# EAGLE library part C8051F221 (library micro-silabs)
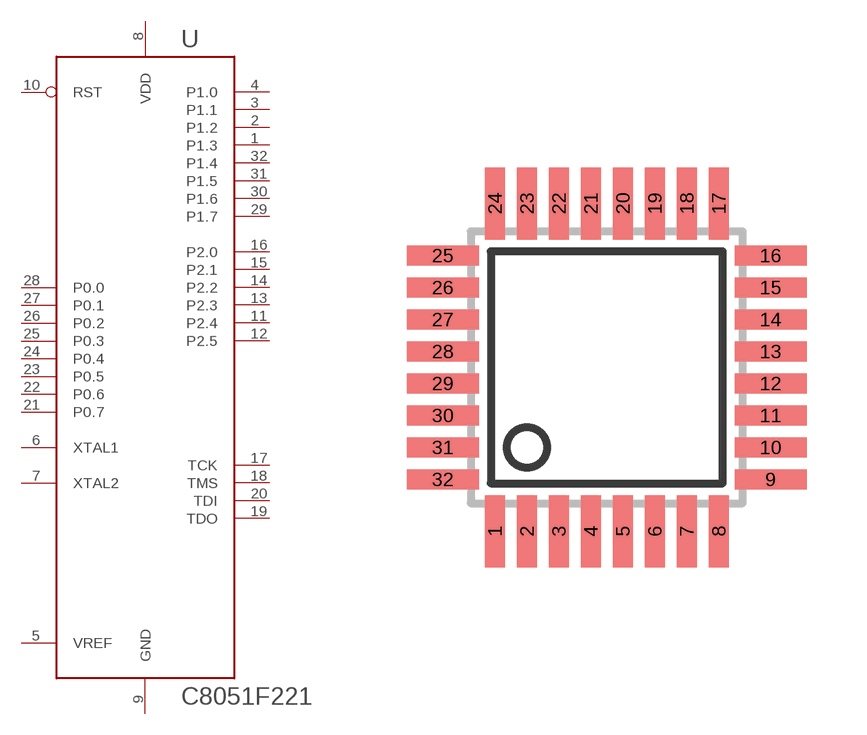
[diagram p33: symbol with the pads of LQFP32; footprint LQFP32]

Designator prefix -

## C8051F221  [LQFP32]
1  P1.3
2  P1.2
3  P1.1
4  P1.0
5  VREF  in
6  XTAL1  in
7  XTAL2  out
8  VDD  pwr
9  GND  pwr
10  RST
11  P2.4
12  P2.5
13  P2.3
14  P2.2
15  P2.1
16  P2.0
17  TCK  in
18  TMS  in
19  TDO  out
20  TDI  in
21  P0.7
22  P0.6
23  P0.5
24  P0.4
25  P0.3
26  P0.2
27  P0.1
28  P0.0
29  P1.7
30  P1.6
31  P1.5
32  P1.4

## Footprint LQFP32 (pad centres in mm)
Cygnal LQFP32
smd 0.5 x 1.8: 1 -2.8,-4.1; 2 -2,-4.1; 3 -1.2,-4.1; 4 -0.4,-4.1; 5 0.4,-4.1; 6 1.2,-4.1; 7 2,-4.1; 8 2.8,-4.1; 17 2.8,4.1; 18 2,4.1; 19 1.2,4.1; 20 0.4,4.1; 21 -0.4,4.1; 22 -1.2,4.1; 23 -2,4.1; 24 -2.8,4.1
smd 1.8 x 0.5: 9 4.1,-2.8; 10 4.1,-2; 11 4.1,-1.2; 12 4.1,-0.4; 13 4.1,0.4; 14 4.1,1.2; 15 4.1,2; 16 4.1,2.8; 25 -4.1,2.8; 26 -4.1,2; 27 -4.1,1.2; 28 -4.1,0.4; 29 -4.1,-0.4; 30 -4.1,-1.2; 31 -4.1,-2; 32 -4.1,-2.8